# Altium footprint library 5-pin header.PcbLib: 1 footprints
Each footprint in its own frame and in the unit in brackets; x right, y up, seen from the top. Pads: shape width x height; smd on the part's side, far side on the other; paste and mask are expansions set on the pad; w line width, h text height; cw(c..) or ccw(c..) is an arc to the next point about the centre after c.
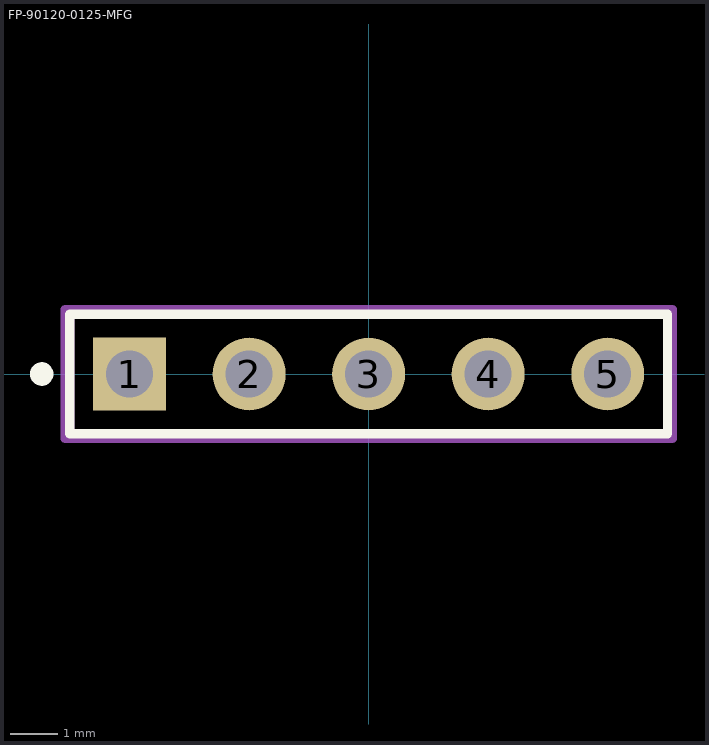
[diagram p0: the footprint, top view; thin cyan lines are the x and y axes]

## FP-90120-0125-MFG [mm]
pads (5):
  rect 1.55x1.55 hole 1 paste-2539.97 mask+0: 1(-5.08,0)
  round 1.55 hole 1 paste-2539.97 mask+0: 2(-2.54,0) 3(0,0) 4(2.54,0) 5(5.08,0)
Top Overlay:
  circle w0.25: c-6.95,0 r0.125
  lines w0.2: -6.35,-1.27 -6.35,1.27 6.35,1.27 6.35,-1.27 -6.35,-1.27
Top Assembly:
  lines w0.2: -6.45,-1.37 -6.45,1.37 6.45,1.37 6.45,-1.37 -6.45,-1.37
  text ".Designator" at 0,0.188 h1
Top 3D Body:
  lines w0.2: -6.35,-1.27 -6.35,1.27 6.35,1.27 6.35,-1.27 -6.35,-1.27
Top Courtyard:
  lines w0.2: -6.45,-1.37 -6.45,1.37 6.45,1.37 6.45,-1.37 -6.45,-1.37
Top Component Center:
  lines w0.1: -0.5,0 0.5,0 ; 0,-0.5 0,0.5
3D body "Conn_Molex_90120-0125_eec.STEP": height 0.25, standoff 0, extent -6.45,-1.37 6.45,1.37